# Altium footprint library Crystal.PcbLib: 180 footprints (part 10 of 12)
Each footprint in its own frame and in the unit in brackets; x right, y up, seen from the top. Pads: shape width x height; smd on the part's side, far side on the other; paste and mask are expansions set on the pad; w line width, h text height; cw(c..) or ccw(c..) is an arc to the next point about the centre after c.
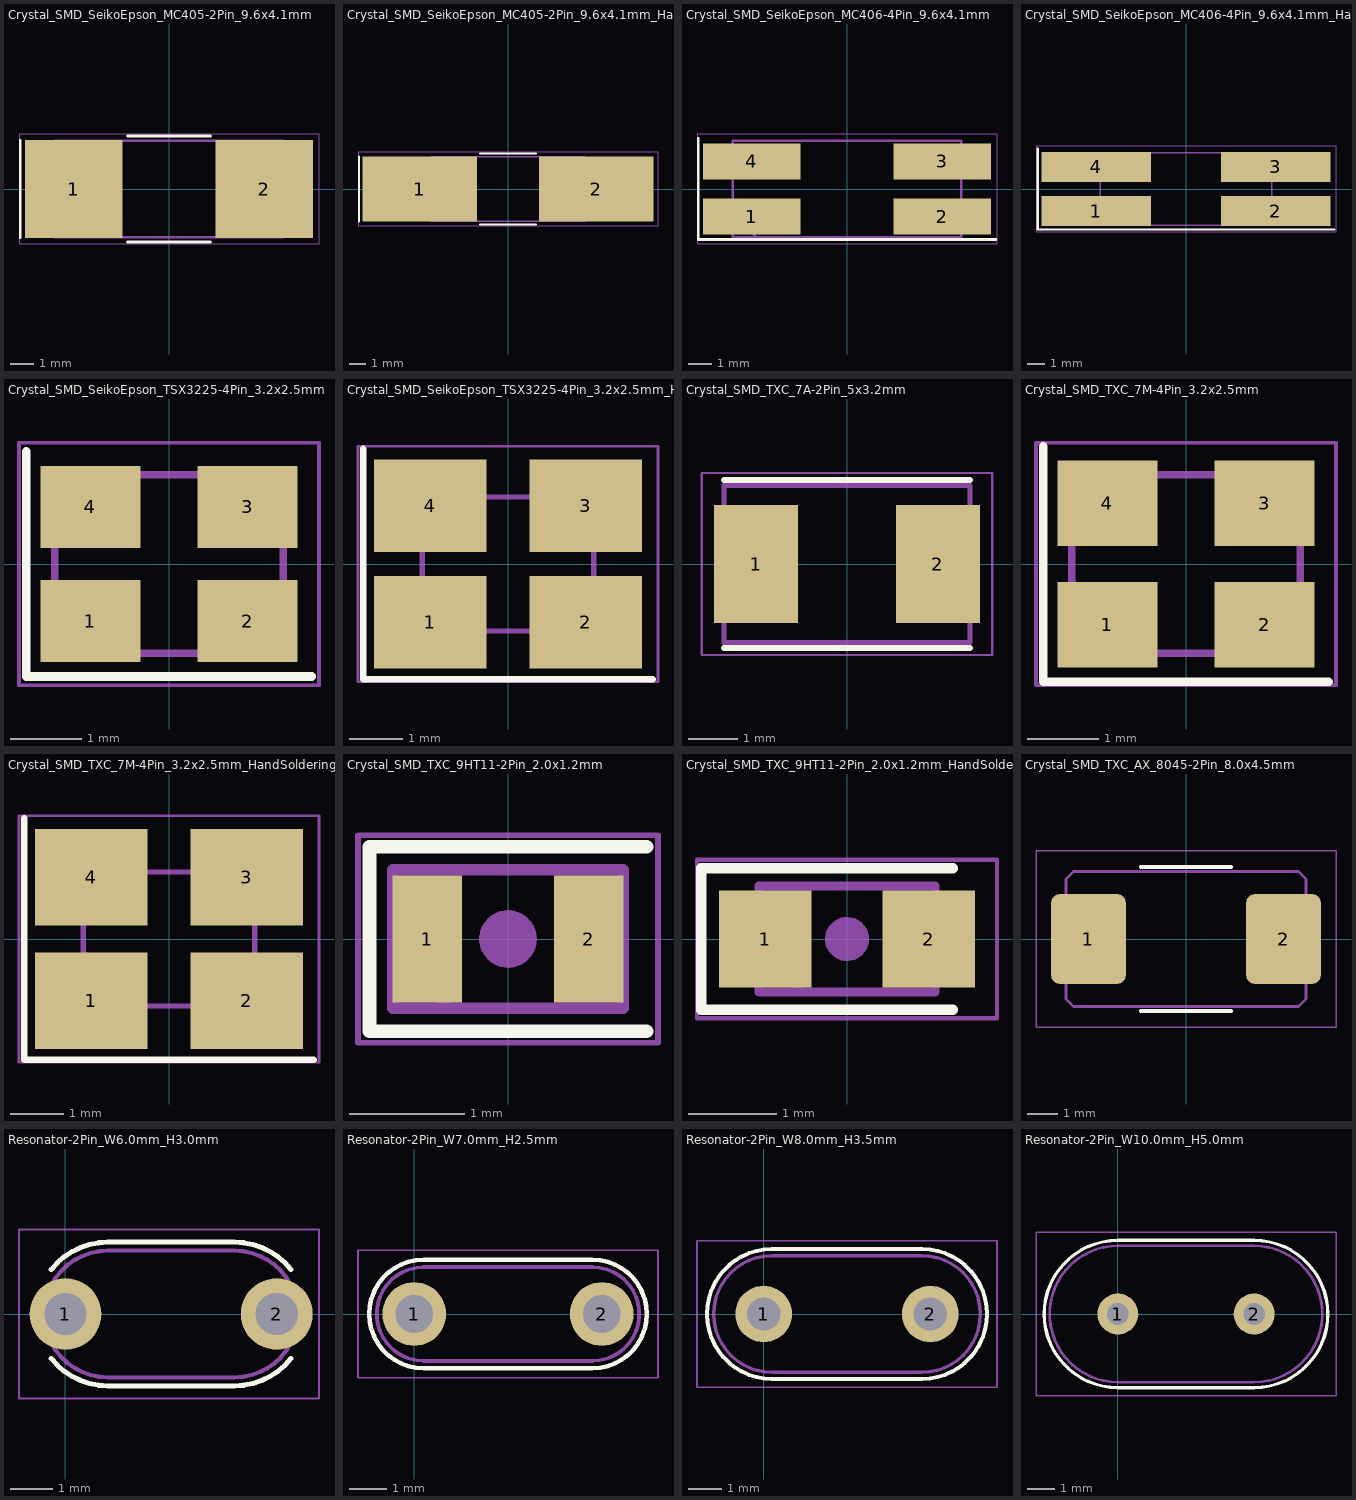
[diagram p9: the footprints below, top view; thin cyan lines are the x and y axes]

## Crystal_SMD_SeikoEpson_MC405-2Pin_9.6x4.1mm [mm]
pads (2):
  rect 4.1x4.1 smd: 1(-4,0) 2(4,0)
F.SilkS:
  lines w0.12: -6.25,-2.05 -6.25,2.05 ; -1.75,-2.23 1.75,-2.23 ; -1.75,2.23 1.75,2.23
F.CrtYd:
  lines w0.05: -6.3,-2.3 -6.3,2.3 6.3,2.3 6.3,-2.3 -6.3,-2.3
F.Fab:
  lines w0.1: -4.8,-1.03 -3.8,-2.03 ; -4.8,-2.03 -4.8,2.03 4.8,2.03 4.8,-2.03 -4.8,-2.03
  text "'.Designator'" at -4.047,-0.84 h1

## Crystal_SMD_SeikoEpson_MC405-2Pin_9.6x4.1mm_HandSoldering [mm]
pads (2):
  rect 7.175x4.1 smd: 1(-5.537,0) 2(5.537,0)
F.SilkS:
  lines w0.12: -9.325,-2.05 -9.325,2.05 ; -1.75,-2.23 1.75,-2.23 ; -1.75,2.23 1.75,2.23
F.CrtYd:
  lines w0.05: -9.4,-2.3 9.4,-2.3 9.4,2.3 -9.4,2.3 -9.4,-2.3
F.Fab:
  lines w0.1: -4.8,-1.03 -3.8,-2.03 ; -4.8,-2.03 -4.8,2.03 4.8,2.03 4.8,-2.03 -4.8,-2.03
  text "'.Designator'" at -4.047,-0.84 h1

## Crystal_SMD_SeikoEpson_MC406-4Pin_9.6x4.1mm [mm]
pads (4):
  rect 4.1x1.52 smd: 1(-4,-1.16) 2(4,-1.16) 3(4,1.16) 4(-4,1.16)
F.SilkS:
  lines w0.12: -6.25,2.12 -6.25,-2.12 6.25,-2.12
F.CrtYd:
  lines w0.05: -6.3,-2.3 -6.3,2.3 6.3,2.3 6.3,-2.3 -6.3,-2.3
F.Fab:
  lines w0.1: -4.8,-1.03 -3.8,-2.03 ; -4.8,-2.03 4.8,-2.03 4.8,2.03 -4.8,2.03 -4.8,-2.03
  text "'.Designator'" at -4.047,-0.84 h1

## Crystal_SMD_SeikoEpson_MC406-4Pin_9.6x4.1mm_HandSoldering [mm]
pads (4):
  rect 6.15x1.672 smd: 1(-5.025,-1.236) 2(5.025,-1.236) 3(5.025,1.236) 4(-5.025,1.236)
F.SilkS:
  lines w0.12: -8.3,2.272 -8.3,-2.272 8.3,-2.272
F.CrtYd:
  lines w0.05: -8.4,-2.4 8.4,-2.4 8.4,2.4 -8.4,2.4 -8.4,-2.4
F.Fab:
  lines w0.1: -4.8,-1.03 -3.8,-2.03 ; -4.8,-2.03 4.8,-2.03 4.8,2.03 -4.8,2.03 -4.8,-2.03
  text "'.Designator'" at -4.047,-0.84 h1

## Crystal_SMD_SeikoEpson_TSX3225-4Pin_3.2x2.5mm [mm]
pads (4):
  rect 1.4x1.15 smd: 1(-1.1,-0.8) 2(1.1,-0.8) 3(1.1,0.8) 4(-1.1,0.8)
F.SilkS:
  lines w0.12: -2,1.575 -2,-1.575 2,-1.575
F.CrtYd:
  lines w0.05: -2.1,-1.7 2.1,-1.7 2.1,1.7 -2.1,1.7 -2.1,-1.7
F.Fab:
  lines w0.1: -1.6,-0.25 -0.6,-1.25 ; -1.6,-1.15 -1.6,1.15 -1.5,1.25 1.5,1.25 1.6,1.15 1.6,-1.15 1.5,-1.25 -1.5,-1.25 -1.6,-1.15
  text "'.Designator'" at -2.833,-0.588 h0.7
3D body "Crystal_SMD_SeikoEpson_TSX3225-4Pin_3.2x2.5mm.step": height 0.64, standoff 0, extent -1.599,-1.251 1.601,1.25

## Crystal_SMD_SeikoEpson_TSX3225-4Pin_3.2x2.5mm_HandSoldering [mm]
pads (4):
  rect 2.1x1.725 smd: 1(-1.45,-1.088) 2(1.45,-1.088) 3(1.45,1.088) 4(-1.45,1.088)
F.SilkS:
  lines w0.12: -2.7,2.15 -2.7,-2.15 2.7,-2.15
F.CrtYd:
  lines w0.05: -2.8,-2.2 2.8,-2.2 2.8,2.2 -2.8,2.2 -2.8,-2.2
F.Fab:
  lines w0.1: -1.6,-0.25 -0.6,-1.25 ; -1.6,-1.15 -1.6,1.15 -1.5,1.25 1.5,1.25 1.6,1.15 1.6,-1.15 1.5,-1.25 -1.5,-1.25 -1.6,-1.15
  text "'.Designator'" at -2.833,-0.588 h0.7
3D body "Crystal_SMD_TXC_7M-4Pin_3.2x2.5mm_HandSoldering.step": height 0.64, standoff 0, extent -1.599,-1.251 1.601,1.25

## Crystal_SMD_TXC_7A-2Pin_5x3.2mm [mm]
pads (2):
  rect 1.7x2.4 smd: 1(-1.85,0) 2(1.85,0)
F.SilkS:
  lines w0.12: -2.5,-1.71 2.5,-1.71 ; -2.5,1.71 2.5,1.71
F.CrtYd:
  lines w0.05: -2.95,-1.85 2.95,-1.85 2.95,1.85 -2.95,1.85 -2.95,-1.85
F.Fab:
  lines w0.1: -2.5,-1.6 -2.5,1.6 2.5,1.6 2.5,-1.6 -2.5,-1.6
  text "'.Designator'" at -4.047,1.66 h1

## Crystal_SMD_TXC_7M-4Pin_3.2x2.5mm [mm]
pads (4):
  rect 1.4x1.2 smd: 1(-1.1,-0.85) 2(1.1,-0.85) 3(1.1,0.85) 4(-1.1,0.85)
F.SilkS:
  lines w0.12: -2,1.65 -2,-1.65 2,-1.65
F.CrtYd:
  lines w0.05: -2.1,-1.7 -2.1,1.7 2.1,1.7 2.1,-1.7 -2.1,-1.7
F.Fab:
  lines w0.1: -1.6,-0.25 -0.6,-1.25 ; -1.6,-1.25 -1.6,1.25 1.6,1.25 1.6,-1.25 -1.6,-1.25
  text "'.Designator'" at -2.833,-0.588 h0.7
3D body "Crystal_SMD_TXC_7M-4Pin_3.2x2.5mm.step": height 0.64, standoff 0, extent -1.599,-1.251 1.601,1.25

## Crystal_SMD_TXC_7M-4Pin_3.2x2.5mm_HandSoldering [mm]
pads (4):
  rect 2.1x1.8 smd: 1(-1.45,-1.15) 2(1.45,-1.15) 3(1.45,1.15) 4(-1.45,1.15)
F.SilkS:
  lines w0.12: -2.7,2.25 -2.7,-2.25 2.7,-2.25
F.CrtYd:
  lines w0.05: -2.8,-2.3 -2.8,2.3 2.8,2.3 2.8,-2.3 -2.8,-2.3
F.Fab:
  lines w0.1: -1.6,-0.25 -0.6,-1.25 ; -1.6,-1.25 -1.6,1.25 1.6,1.25 1.6,-1.25 -1.6,-1.25
  text "'.Designator'" at -2.833,-0.588 h0.7
3D body "Crystal_SMD_TXC_7M-4Pin_3.2x2.5mm_HandSoldering.step": height 0.64, standoff 0, extent -1.599,-1.251 1.601,1.25

## Crystal_SMD_TXC_9HT11-2Pin_2.0x1.2mm [mm]
pads (2):
  rect 0.6x1.1 smd: 1(-0.7,0) 2(0.7,0)
F.SilkS:
  lines w0.12: 1.2,-0.8 -1.2,-0.8 -1.2,0.8 1.2,0.8
F.CrtYd:
  lines w0.05: -1.3,-0.9 1.3,-0.9 1.3,0.9 -1.3,0.9 -1.3,-0.9
F.Fab:
  lines w0.1: -1,-0.1 -0.5,-0.6 ; -1,-0.6 1,-0.6 1,0.6 -1,0.6 -1,-0.6
  text "'.Designator'" at -2.023,-0.42 h0.5
F.Adhes:
  circle w0.067: c0,0 r0.107
  circle w0.067: c0,0 r0.167
  circle w0.093: c0,0 r0.047
  circle w0.1: c0,0 r0.2

## Crystal_SMD_TXC_9HT11-2Pin_2.0x1.2mm_HandSoldering [mm]
pads (2):
  rect 1.05x1.1 smd: 1(-0.925,0) 2(0.925,0)
F.SilkS:
  lines w0.12: 1.2,-0.8 -1.65,-0.8 -1.65,0.8 1.2,0.8
F.CrtYd:
  lines w0.05: -1.7,-0.9 -1.7,0.9 1.7,0.9 1.7,-0.9 -1.7,-0.9
F.Fab:
  lines w0.1: -1,-0.1 -0.5,-0.6 ; -1,-0.6 1,-0.6 1,0.6 -1,0.6 -1,-0.6
  text "'.Designator'" at -2.023,-0.42 h0.5
F.Adhes:
  circle w0.093: c0,0 r0.047
  circle w0.1: c0,0 r0.2
  circle w0.067: c0,0 r0.107
  circle w0.067: c0,0 r0.167

## Crystal_SMD_TXC_AX_8045-2Pin_8.0x4.5mm [mm]
pads (2):
  rrect25% 2.5x3 smd: 1(-3.25,0) 2(3.25,0)
F.SilkS:
  lines w0.12: -1.5,-2.4 1.5,-2.4 ; -1.5,2.4 1.5,2.4
F.CrtYd:
  lines w0.05: -5,-2.95 -5,2.95 5,2.95 5,-2.95 -5,-2.95
F.Fab:
  lines w0.1: -4,-2 -3.75,-2.25 3.75,-2.25 4,-2 4,2 3.75,2.25 -3.75,2.25 -4,2 -4,-2
  text "'.Designator'" at -4.047,-0.84 h1
3D body "Crystal_SMD_TXC_AX_8045-2Pin_8.0x4.5mm.step": height 1.45, standoff 0, extent -4,-2.25 4,2.25

## Resonator-2Pin_W6.0mm_H3.0mm [mm]
pads (2):
  round 1.7 hole 1: 1(0,0) 2(5,0)
F.SilkS:
  lines w0.12: -0.338,-1.049 ccw(c1,0) 1,-1.7 4,-1.7 ccw(c4,0) 5.338,-1.049 ; -0.338,1.049 cw(c1,0) 1,1.7 4,1.7 cw(c4,0) 5.338,1.049
F.CrtYd:
  lines w0.05: -1.1,-2 -1.1,2 6,2 6,-2 -1.1,-2
F.Fab:
  lines w0.1: 1,-1.5 cw(c1,0) 1,1.5 ; 1,-1.5 cw(c1,0) 1,1.5 ; 1,-1.5 4,-1.5 ; 1,-1.5 4,-1.5 ; 1,1.5 4,1.5 ; 1,1.5 4,1.5 ; 4,-1.5 ccw(c4,0) 4,1.5 ; 4,-1.5 ccw(c4,0) 4,1.5
  text "'.Designator'" at -1.547,-0.84 h1

## Resonator-2Pin_W7.0mm_H2.5mm [mm]
pads (2):
  round 1.7 hole 1: 1(0,0) 2(5,0)
F.SilkS:
  lines w0.12: 0.25,-1.45 4.75,-1.45 ccw(c4.75,0) 4.75,1.45 0.25,1.45 ccw(c0.25,0) 0.25,-1.45
F.CrtYd:
  lines w0.05: -1.5,-1.7 6.5,-1.7 6.5,1.7 -1.5,1.7 -1.5,-1.7
F.Fab:
  lines w0.1: 0.25,-1.25 4.75,-1.25 ; 0.25,-1.25 4.75,-1.25 ; 0.25,-1.25 cw(c0.25,0) 0.25,1.25 ; 0.25,-1.25 cw(c0.25,0) 0.25,1.25 ; 0.25,1.25 4.75,1.25 ; 0.25,1.25 4.75,1.25 ; 4.75,-1.25 ccw(c4.75,0) 4.75,1.25 ; 4.75,-1.25 ccw(c4.75,0) 4.75,1.25
  text "'.Designator'" at -1.547,-0.84 h1

## Resonator-2Pin_W8.0mm_H3.5mm [mm]
pads (2):
  round 1.7 hole 1: 1(0,0) 2(5,0)
F.SilkS:
  lines w0.12: 0.25,-1.95 4.75,-1.95 ccw(c4.75,0) 4.75,1.95 0.25,1.95 ccw(c0.25,0) 0.25,-1.95
F.CrtYd:
  lines w0.05: -2,-2.2 7,-2.2 7,2.2 -2,2.2 -2,-2.2
F.Fab:
  lines w0.1: 0.25,-1.75 4.75,-1.75 ; 0.25,-1.75 4.75,-1.75 ; 0.25,-1.75 cw(c0.25,0) 0.25,1.75 ; 0.25,-1.75 cw(c0.25,0) 0.25,1.75 ; 0.25,1.75 4.75,1.75 ; 0.25,1.75 4.75,1.75 ; 4.75,-1.75 ccw(c4.75,0) 4.75,1.75 ; 4.75,-1.75 ccw(c4.75,0) 4.75,1.75
  text "'.Designator'" at -1.547,-0.84 h1

## Resonator-2Pin_W10.0mm_H5.0mm [mm]
pads (2):
  round 1.5 hole 0.8: 1(0,0) 2(5,0)
F.SilkS:
  lines w0.12: 0,-2.7 5,-2.7 ccw(c5,0) 5,2.7 0,2.7 ccw(c0,0) 0,-2.7
F.CrtYd:
  lines w0.05: -3,-3 -3,3 8,3 8,-3 -3,-3
F.Fab:
  lines w0.1: 0,-2.5 5,-2.5 ; 0,-2.5 5,-2.5 ; 0,-2.5 cw(c0,0) 0,2.5 ; 0,-2.5 cw(c0,0) 0,2.5 ; 0,2.5 5,2.5 ; 0,2.5 5,2.5 ; 5,-2.5 ccw(c5,0) 5,2.5 ; 5,-2.5 ccw(c5,0) 5,2.5
  text "'.Designator'" at -1.547,-0.84 h1